# Altium schematic symbol library HW_ADHERENT_SYSCTRL_R1_L2.SCHLIB: 1987 symbols (part 13 of 38)
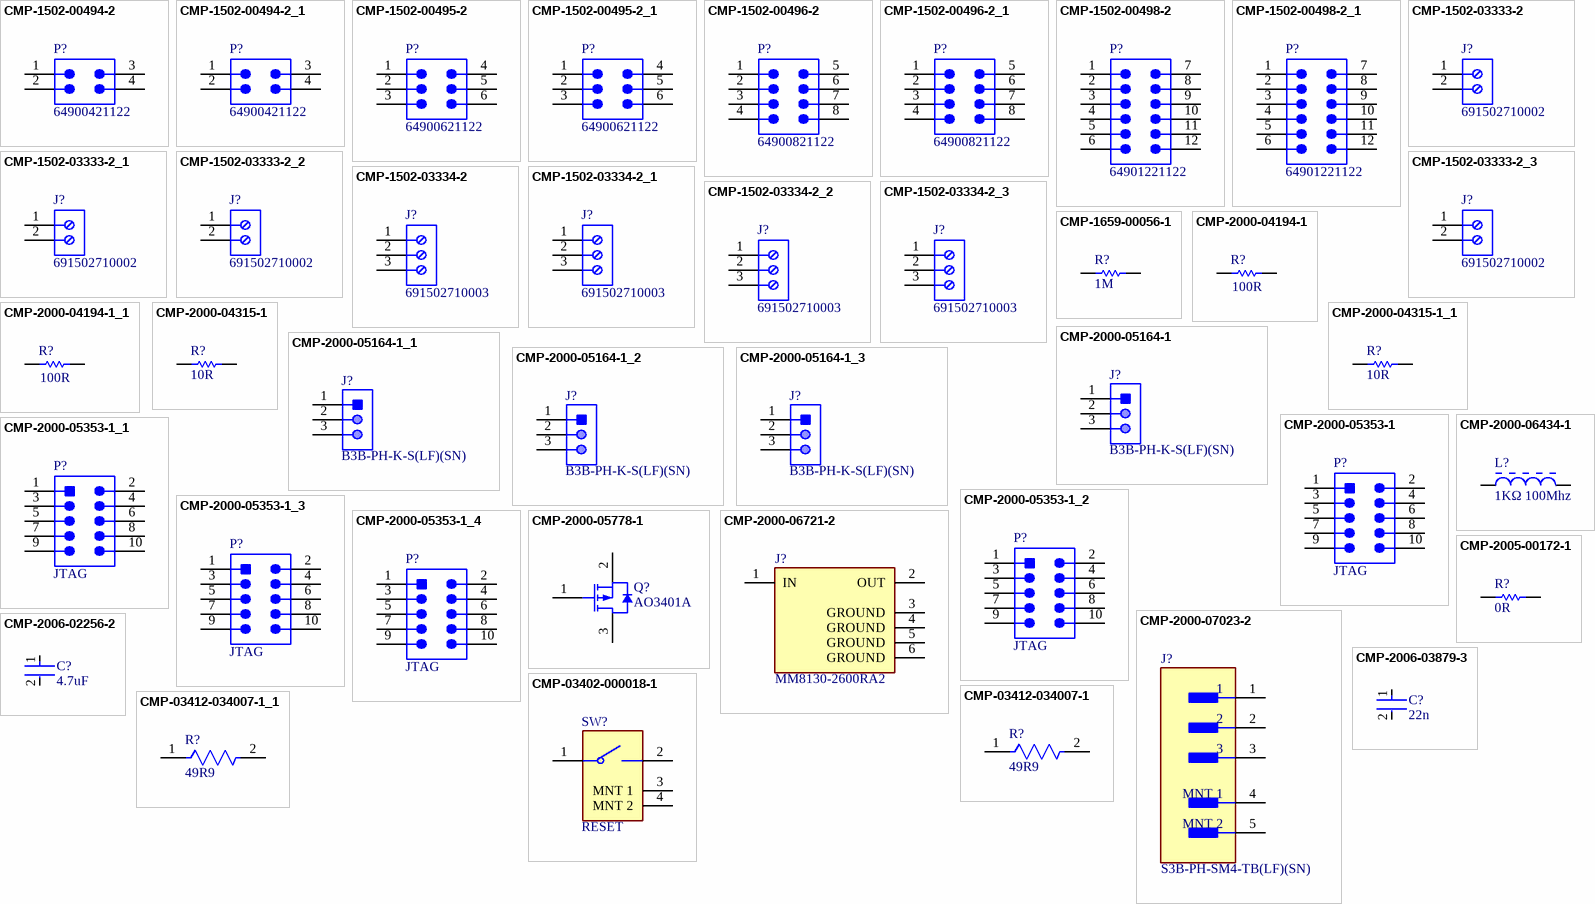
[diagram p74: symbols CMP-1502-00494-2 to CMP-03412-034007-1_1]

## CMP-1502-03333-2_1
designator J?, comment 691502710002
NexarPartId: 106069304; Pitch: 5mm; Packaging: Box; Length: 10mm; Max Operating Temperature: 130°C; Min Operating Temperature: -45°C; Number of Pins: 2
footprint 691502710002 (Terminal Block, Wtb, 2Way, 22-14Awg Rohs Compliant: Yes)
pins: 1, 2

## CMP-1502-03333-2_2
designator J?, comment 691502710002
NexarPartId: 106069304; Pitch: 5mm; Packaging: Box; Length: 10mm; Max Operating Temperature: 130°C; Min Operating Temperature: -45°C; Number of Pins: 2
footprint 691502710002 (Terminal Block, Wtb, 2Way, 22-14Awg Rohs Compliant: Yes)
pins: 1, 2

## CMP-1502-03333-2_3
designator J?, comment 691502710002
NexarPartId: 106069304; Pitch: 5mm; Packaging: Box; Length: 10mm; Max Operating Temperature: 130°C; Min Operating Temperature: -45°C; Number of Pins: 2
footprint 691502710002 (Terminal Block, Wtb, 2Way, 22-14Awg Rohs Compliant: Yes)
pins: 1, 2

## CMP-1502-03334-2
designator J?, comment 691502710003
NexarPartId: 106069305; Pitch: 5mm; Max Operating Temperature: 130°C; Min Operating Temperature: -45°C; Length: 15mm; Packaging: Box; Number of Pins: 3
footprint 691502710003 (Terminal Block, Wtb, 3Way, 22-14Awg Rohs Compliant: Yes)
pins: 1, 2, 3

## CMP-1502-03334-2_1
designator J?, comment 691502710003
NexarPartId: 106069305; Pitch: 5mm; Max Operating Temperature: 130°C; Min Operating Temperature: -45°C; Length: 15mm; Packaging: Box; Number of Pins: 3
footprint 691502710003 (Terminal Block, Wtb, 3Way, 22-14Awg Rohs Compliant: Yes)
pins: 1, 2, 3

## CMP-1502-03334-2_2
designator J?, comment 691502710003
NexarPartId: 106069305; Pitch: 5mm; Max Operating Temperature: 130°C; Min Operating Temperature: -45°C; Length: 15mm; Packaging: Box; Number of Pins: 3
footprint 691502710003 (Terminal Block, Wtb, 3Way, 22-14Awg Rohs Compliant: Yes)
pins: 1, 2, 3

## CMP-1502-03334-2_3
designator J?, comment 691502710003
NexarPartId: 106069305; Pitch: 5mm; Max Operating Temperature: 130°C; Min Operating Temperature: -45°C; Length: 15mm; Packaging: Box; Number of Pins: 3
footprint 691502710003 (Terminal Block, Wtb, 3Way, 22-14Awg Rohs Compliant: Yes)
pins: 1, 2, 3

## CMP-1659-00056-1
designator R?, comment 1M
Chip Resistor, 1 MOhm, +/- 1%, 100 mW, -55 to 155 degC, 0603 (1608 Metric), RoHS, Tape and Reel; Voltage Rating (DC): 25 V; Tolerance: 20%; Case\Package: Radial; Capacitance: 1 mF; Min Operating Temperature: -40 degC; PackageDescription: 2-Pin Surface Mount Device, Body 1.6 x 0.8 mm; ComponentLink1Description: Manufacturer URL; Radiation Hardening: No; DatasheetVersion: Rev. 4, 02/2016; REACH SVHC: No SVHC; Length: 20 mm; Max Operating Temperature: 85 degC; Diameter: 10 mm; Packaging: Bulk; Package Quantity: 200; PackageReference: 0603; Mount: Through Hole; ComponentLink1URL: http://www.yageo.com/; ComponentLink2URL: http://www.yageo.com/documents/recent/PYu-RC_Group_51_RoHS_L_04.pdf; ComponentLink2Description: Datasheet; Width: 0 inch; Lead Pitch: 5 mm; RoHSCompliant: true; Voltage Rating: 25 V; Height: 20 mm
footprint RESC1608X55X25LL10T15 (Chip Resistor, 2-Leads, Body 1.70x0.90mm, IPC High Density)
footprint RESC1608X55X25ML10T15 (Chip Resistor, 2-Leads, Body 1.70x0.90mm, IPC Low Density)
footprint RESC1608X55X25NL10T15 (Chip Resistor, 2-Leads, Body 1.70x0.90mm, IPC Medium Density)
pins: 1, 2

## CMP-2000-04194-1
designator R?, comment 100R
Part Number: RC0603FR-13100RL; Manufacturer: Yageo; Manufacturer Part Number: RC0603FR-13100RL
footprint RESC1608X55X25NL10T15 (Chip Resistor, 2-Leads, Body 1.60x0.80mm, IPC Medium Density)
footprint RESC1608X55X25LL10T15 (Chip Resistor, 2-Leads, Body 1.60x0.80mm, IPC High Density)
footprint RESC1608X55X25ML10T15 (Chip Resistor, 2-Leads, Body 1.60x0.80mm, IPC Low Density)
pins: 1, 2
1 alternate drawing of the same symbol

## CMP-2000-04194-1_1
designator R?, comment 100R
Part Number: RC0603FR-13100RL; Manufacturer: Yageo; Manufacturer Part Number: RC0603FR-13100RL
footprint RESC1608X55X25NL10T15 (Chip Resistor, 2-Leads, Body 1.60x0.80mm, IPC Medium Density)
footprint RESC1608X55X25LL10T15 (Chip Resistor, 2-Leads, Body 1.60x0.80mm, IPC High Density)
footprint RESC1608X55X25ML10T15 (Chip Resistor, 2-Leads, Body 1.60x0.80mm, IPC Low Density)
pins: 1, 2
1 alternate drawing of the same symbol

## CMP-2000-04315-1
designator R?, comment 10R
Part Number: RC0603JR-1310RL; Manufacturer: Yageo; Manufacturer Part Number: RC0603JR-1310RL
footprint RESC1608X55X25LL10T15 (Chip Resistor, 2-Leads, Body 1.60x0.80mm, IPC High Density)
footprint RESC1608X55X25ML10T15 (Chip Resistor, 2-Leads, Body 1.60x0.80mm, IPC Low Density)
footprint RESC1608X55X25NL10T15 (Chip Resistor, 2-Leads, Body 1.60x0.80mm, IPC Medium Density)
pins: 1, 2
1 alternate drawing of the same symbol

## CMP-2000-04315-1_1
designator R?, comment 10R
Part Number: RC0603JR-1310RL; Manufacturer: Yageo; Manufacturer Part Number: RC0603JR-1310RL
footprint RESC1608X55X25LL10T15 (Chip Resistor, 2-Leads, Body 1.60x0.80mm, IPC High Density)
footprint RESC1608X55X25ML10T15 (Chip Resistor, 2-Leads, Body 1.60x0.80mm, IPC Low Density)
footprint RESC1608X55X25NL10T15 (Chip Resistor, 2-Leads, Body 1.60x0.80mm, IPC Medium Density)
pins: 1, 2
1 alternate drawing of the same symbol

## CMP-2000-05164-1
designator J?, comment B3B-PH-K-S(LF)(SN)
Male Header, Pitch 2 mm, 1 x 3 Position, Height 6 mm, Tail Length 3.4 mm, -25 to 85 degC, RoHS, Bulk; Manufacturer: JST; Style/Orientation: StraightHeader/Plug; Pitch: 2mm; No of Positions: 3; Termination: Crimp; Manufacturer URL: http://www.jst.com/home2.html; Datasheet Version: Oct-06; Type: ShroudedHeader; Datasheet URL: https://datasheet.ciiva.com/11746/0900766b80826550-11746939.pdf
footprint JST-B3B-PH-K-S-3_V (Connector, 3-Leads, Body 7.9x4.5mm, Pitch 2mm)
pins: 1, 2, 3

## CMP-2000-05164-1_1
designator J?, comment B3B-PH-K-S(LF)(SN)
Male Header, Pitch 2 mm, 1 x 3 Position, Height 6 mm, Tail Length 3.4 mm, -25 to 85 degC, RoHS, Bulk; Manufacturer: JST; Style/Orientation: StraightHeader/Plug; Pitch: 2mm; No of Positions: 3; Termination: Crimp; Manufacturer URL: http://www.jst.com/home2.html; Datasheet Version: Oct-06; Type: ShroudedHeader; Datasheet URL: https://datasheet.ciiva.com/11746/0900766b80826550-11746939.pdf
footprint JST-B3B-PH-K-S-3_V (Connector, 3-Leads, Body 7.9x4.5mm, Pitch 2mm)
pins: 1, 2, 3

## CMP-2000-05164-1_2
designator J?, comment B3B-PH-K-S(LF)(SN)
Male Header, Pitch 2 mm, 1 x 3 Position, Height 6 mm, Tail Length 3.4 mm, -25 to 85 degC, RoHS, Bulk; Manufacturer: JST; Style/Orientation: StraightHeader/Plug; Pitch: 2mm; No of Positions: 3; Termination: Crimp; Manufacturer URL: http://www.jst.com/home2.html; Datasheet Version: Oct-06; Type: ShroudedHeader; Datasheet URL: https://datasheet.ciiva.com/11746/0900766b80826550-11746939.pdf
footprint JST-B3B-PH-K-S-3_V (Connector, 3-Leads, Body 7.9x4.5mm, Pitch 2mm)
pins: 1, 2, 3

## CMP-2000-05164-1_3
designator J?, comment B3B-PH-K-S(LF)(SN)
Male Header, Pitch 2 mm, 1 x 3 Position, Height 6 mm, Tail Length 3.4 mm, -25 to 85 degC, RoHS, Bulk; Manufacturer: JST; Style/Orientation: StraightHeader/Plug; Pitch: 2mm; No of Positions: 3; Termination: Crimp; Manufacturer URL: http://www.jst.com/home2.html; Datasheet Version: Oct-06; Type: ShroudedHeader; Datasheet URL: https://datasheet.ciiva.com/11746/0900766b80826550-11746939.pdf
footprint JST-B3B-PH-K-S-3_V (Connector, 3-Leads, Body 7.9x4.5mm, Pitch 2mm)
pins: 1, 2, 3

## CMP-2000-05353-1
designator P?, comment JTAG
CONN HEADER SMD 10POS 1.27MM; Manufacturer: Samtec; Manufacturer Part Number: FTSH-105-01-L-DV-K; Number of Contacts: 10; Gender: Male; Max Current Rating: 1.75A; Connector Type: Male Pin; Row Spacing: 0.05inch; ComponentLink1URL: https://datasheet.ciiva.com/26936/getdatasheetpartid-175877-26936879.pdf?src-supplier=Verical; ComponentLink1Description: https://datasheet.ciiva.com/26936/getdatasheetpartid-175877-26936879.pdf?src-supplier=Verical; ComponentLink2URL: https://datasheet.ciiva.com/728/ftsh-1xx-xx-xxx-dv-xxx-mkt-728872.pdf?src-supplier=Digi-Key; ComponentLink2Description: https://datasheet.ciiva.com/728/ftsh-1xx-xx-xxx-dv-xxx-mkt-728872.pdf?src-supplier=Digi-Key; ComponentLink3URL: https://datasheet.ciiva.com/10245/ftsh-mt-10245272.pdf?src-supplier=Avnet; ComponentLink3Description: https://datasheet.ciiva.com/10245/ftsh-mt-10245272.pdf?src-supplier=Avnet; ComponentLink4URL: https://datasheet.ciiva.com/16657/ftsh-mt-16657372.pdf?src-supplier=Avnet+Europe; ComponentLink4Description: https://datasheet.ciiva.com/16657/ftsh-mt-16657372.pdf?src-supplier=Avnet+Europe; ComponentLink5URL: https://datasheet.ciiva.com/22703/ftsh-smt-22703900.pdf?src-supplier=Element14; ComponentLink5Description: https://datasheet.ciiva.com/22703/ftsh-smt-22703900.pdf?src-supplier=Element14; Supplier 1: Digi-Key; Supplier Part Number 1: SAM8799-ND; RoHS: Yes; Category: Headers and Wire Housings; Stock 1: 34196; Pricing 1: 1=3,91000, 10=3,75700, 100=3,13100, 500=2,66136, 1000=2,26998 (USD); Mount: Surface Mount; Contact Plating: Gold; Contact Material: Bronze; Housing Color: Black; Housing Material: Polymer; Color: Black; Min Operating Temperature: -55°C; Max Operating Temperature: 125°C; Number of Rows: 2; Termination: Solder; Packaging: Rail/Tube; Orientation: Straight; Package Quantity: 1; Number of Positions: 10; Series: FTSH; Contact Type: Male Pin; Length: 6.35mm; Pitch: 1.27mm; Depth: 3.43mm; Contact Mating Length: 0.12inch; Radiation Hardening: No; Lead Free: Lead Free; RoHS Compliant: Yes; REACH SVHC: No SVHC
footprint SMTC-FTSH-105-01-L-DV-K_V (CONN, 10-Leads, Body 6.35x3.43mm, Pitch 1.27mm)
pins: 1, 2, 3, 4, 5, 6, 7, 8, 9, 10

## CMP-2000-05353-1_1
designator P?, comment JTAG
CONN HEADER SMD 10POS 1.27MM; Manufacturer: Samtec; Manufacturer Part Number: FTSH-105-01-L-DV-K; Number of Contacts: 10; Gender: Male; Max Current Rating: 1.75A; Connector Type: Male Pin; Row Spacing: 0.05inch; ComponentLink1URL: https://datasheet.ciiva.com/26936/getdatasheetpartid-175877-26936879.pdf?src-supplier=Verical; ComponentLink1Description: https://datasheet.ciiva.com/26936/getdatasheetpartid-175877-26936879.pdf?src-supplier=Verical; ComponentLink2URL: https://datasheet.ciiva.com/728/ftsh-1xx-xx-xxx-dv-xxx-mkt-728872.pdf?src-supplier=Digi-Key; ComponentLink2Description: https://datasheet.ciiva.com/728/ftsh-1xx-xx-xxx-dv-xxx-mkt-728872.pdf?src-supplier=Digi-Key; ComponentLink3URL: https://datasheet.ciiva.com/10245/ftsh-mt-10245272.pdf?src-supplier=Avnet; ComponentLink3Description: https://datasheet.ciiva.com/10245/ftsh-mt-10245272.pdf?src-supplier=Avnet; ComponentLink4URL: https://datasheet.ciiva.com/16657/ftsh-mt-16657372.pdf?src-supplier=Avnet+Europe; ComponentLink4Description: https://datasheet.ciiva.com/16657/ftsh-mt-16657372.pdf?src-supplier=Avnet+Europe; ComponentLink5URL: https://datasheet.ciiva.com/22703/ftsh-smt-22703900.pdf?src-supplier=Element14; ComponentLink5Description: https://datasheet.ciiva.com/22703/ftsh-smt-22703900.pdf?src-supplier=Element14; Supplier 1: Digi-Key; Supplier Part Number 1: SAM8799-ND; RoHS: Yes; Category: Headers and Wire Housings; Stock 1: 34196; Pricing 1: 1=3,91000, 10=3,75700, 100=3,13100, 500=2,66136, 1000=2,26998 (USD); Mount: Surface Mount; Contact Plating: Gold; Contact Material: Bronze; Housing Color: Black; Housing Material: Polymer; Color: Black; Min Operating Temperature: -55°C; Max Operating Temperature: 125°C; Number of Rows: 2; Termination: Solder; Packaging: Rail/Tube; Orientation: Straight; Package Quantity: 1; Number of Positions: 10; Series: FTSH; Contact Type: Male Pin; Length: 6.35mm; Pitch: 1.27mm; Depth: 3.43mm; Contact Mating Length: 0.12inch; Radiation Hardening: No; Lead Free: Lead Free; RoHS Compliant: Yes; REACH SVHC: No SVHC
footprint SMTC-FTSH-105-01-L-DV-K_V (CONN, 10-Leads, Body 6.35x3.43mm, Pitch 1.27mm)
pins: 1, 2, 3, 4, 5, 6, 7, 8, 9, 10

## CMP-2000-05353-1_2
designator P?, comment JTAG
CONN HEADER SMD 10POS 1.27MM; Manufacturer: Samtec; Manufacturer Part Number: FTSH-105-01-L-DV-K; Number of Contacts: 10; Gender: Male; Max Current Rating: 1.75A; Connector Type: Male Pin; Row Spacing: 0.05inch; ComponentLink1URL: https://datasheet.ciiva.com/26936/getdatasheetpartid-175877-26936879.pdf?src-supplier=Verical; ComponentLink1Description: https://datasheet.ciiva.com/26936/getdatasheetpartid-175877-26936879.pdf?src-supplier=Verical; ComponentLink2URL: https://datasheet.ciiva.com/728/ftsh-1xx-xx-xxx-dv-xxx-mkt-728872.pdf?src-supplier=Digi-Key; ComponentLink2Description: https://datasheet.ciiva.com/728/ftsh-1xx-xx-xxx-dv-xxx-mkt-728872.pdf?src-supplier=Digi-Key; ComponentLink3URL: https://datasheet.ciiva.com/10245/ftsh-mt-10245272.pdf?src-supplier=Avnet; ComponentLink3Description: https://datasheet.ciiva.com/10245/ftsh-mt-10245272.pdf?src-supplier=Avnet; ComponentLink4URL: https://datasheet.ciiva.com/16657/ftsh-mt-16657372.pdf?src-supplier=Avnet+Europe; ComponentLink4Description: https://datasheet.ciiva.com/16657/ftsh-mt-16657372.pdf?src-supplier=Avnet+Europe; ComponentLink5URL: https://datasheet.ciiva.com/22703/ftsh-smt-22703900.pdf?src-supplier=Element14; ComponentLink5Description: https://datasheet.ciiva.com/22703/ftsh-smt-22703900.pdf?src-supplier=Element14; Supplier 1: Digi-Key; Supplier Part Number 1: SAM8799-ND; RoHS: Yes; Category: Headers and Wire Housings; Stock 1: 34196; Pricing 1: 1=3,91000, 10=3,75700, 100=3,13100, 500=2,66136, 1000=2,26998 (USD); Mount: Surface Mount; Contact Plating: Gold; Contact Material: Bronze; Housing Color: Black; Housing Material: Polymer; Color: Black; Min Operating Temperature: -55°C; Max Operating Temperature: 125°C; Number of Rows: 2; Termination: Solder; Packaging: Rail/Tube; Orientation: Straight; Package Quantity: 1; Number of Positions: 10; Series: FTSH; Contact Type: Male Pin; Length: 6.35mm; Pitch: 1.27mm; Depth: 3.43mm; Contact Mating Length: 0.12inch; Radiation Hardening: No; Lead Free: Lead Free; RoHS Compliant: Yes; REACH SVHC: No SVHC
footprint SMTC-FTSH-105-01-L-DV-K_V (CONN, 10-Leads, Body 6.35x3.43mm, Pitch 1.27mm)
pins: 1, 2, 3, 4, 5, 6, 7, 8, 9, 10

## CMP-2000-05353-1_3
designator P?, comment JTAG
CONN HEADER SMD 10POS 1.27MM; Manufacturer: Samtec; Manufacturer Part Number: FTSH-105-01-L-DV-K; Number of Contacts: 10; Gender: Male; Max Current Rating: 1.75A; Connector Type: Male Pin; Row Spacing: 0.05inch; ComponentLink1URL: https://datasheet.ciiva.com/26936/getdatasheetpartid-175877-26936879.pdf?src-supplier=Verical; ComponentLink1Description: https://datasheet.ciiva.com/26936/getdatasheetpartid-175877-26936879.pdf?src-supplier=Verical; ComponentLink2URL: https://datasheet.ciiva.com/728/ftsh-1xx-xx-xxx-dv-xxx-mkt-728872.pdf?src-supplier=Digi-Key; ComponentLink2Description: https://datasheet.ciiva.com/728/ftsh-1xx-xx-xxx-dv-xxx-mkt-728872.pdf?src-supplier=Digi-Key; ComponentLink3URL: https://datasheet.ciiva.com/10245/ftsh-mt-10245272.pdf?src-supplier=Avnet; ComponentLink3Description: https://datasheet.ciiva.com/10245/ftsh-mt-10245272.pdf?src-supplier=Avnet; ComponentLink4URL: https://datasheet.ciiva.com/16657/ftsh-mt-16657372.pdf?src-supplier=Avnet+Europe; ComponentLink4Description: https://datasheet.ciiva.com/16657/ftsh-mt-16657372.pdf?src-supplier=Avnet+Europe; ComponentLink5URL: https://datasheet.ciiva.com/22703/ftsh-smt-22703900.pdf?src-supplier=Element14; ComponentLink5Description: https://datasheet.ciiva.com/22703/ftsh-smt-22703900.pdf?src-supplier=Element14; Supplier 1: Digi-Key; Supplier Part Number 1: SAM8799-ND; RoHS: Yes; Category: Headers and Wire Housings; Stock 1: 34196; Pricing 1: 1=3,91000, 10=3,75700, 100=3,13100, 500=2,66136, 1000=2,26998 (USD); Mount: Surface Mount; Contact Plating: Gold; Contact Material: Bronze; Housing Color: Black; Housing Material: Polymer; Color: Black; Min Operating Temperature: -55°C; Max Operating Temperature: 125°C; Number of Rows: 2; Termination: Solder; Packaging: Rail/Tube; Orientation: Straight; Package Quantity: 1; Number of Positions: 10; Series: FTSH; Contact Type: Male Pin; Length: 6.35mm; Pitch: 1.27mm; Depth: 3.43mm; Contact Mating Length: 0.12inch; Radiation Hardening: No; Lead Free: Lead Free; RoHS Compliant: Yes; REACH SVHC: No SVHC
footprint SMTC-FTSH-105-01-L-DV-K_V (CONN, 10-Leads, Body 6.35x3.43mm, Pitch 1.27mm)
pins: 1, 2, 3, 4, 5, 6, 7, 8, 9, 10

## CMP-2000-05353-1_4
designator P?, comment JTAG
CONN HEADER SMD 10POS 1.27MM; Manufacturer: Samtec; Manufacturer Part Number: FTSH-105-01-L-DV-K; Number of Contacts: 10; Gender: Male; Max Current Rating: 1.75A; Connector Type: Male Pin; Row Spacing: 0.05inch; ComponentLink1URL: https://datasheet.ciiva.com/26936/getdatasheetpartid-175877-26936879.pdf?src-supplier=Verical; ComponentLink1Description: https://datasheet.ciiva.com/26936/getdatasheetpartid-175877-26936879.pdf?src-supplier=Verical; ComponentLink2URL: https://datasheet.ciiva.com/728/ftsh-1xx-xx-xxx-dv-xxx-mkt-728872.pdf?src-supplier=Digi-Key; ComponentLink2Description: https://datasheet.ciiva.com/728/ftsh-1xx-xx-xxx-dv-xxx-mkt-728872.pdf?src-supplier=Digi-Key; ComponentLink3URL: https://datasheet.ciiva.com/10245/ftsh-mt-10245272.pdf?src-supplier=Avnet; ComponentLink3Description: https://datasheet.ciiva.com/10245/ftsh-mt-10245272.pdf?src-supplier=Avnet; ComponentLink4URL: https://datasheet.ciiva.com/16657/ftsh-mt-16657372.pdf?src-supplier=Avnet+Europe; ComponentLink4Description: https://datasheet.ciiva.com/16657/ftsh-mt-16657372.pdf?src-supplier=Avnet+Europe; ComponentLink5URL: https://datasheet.ciiva.com/22703/ftsh-smt-22703900.pdf?src-supplier=Element14; ComponentLink5Description: https://datasheet.ciiva.com/22703/ftsh-smt-22703900.pdf?src-supplier=Element14; Supplier 1: Digi-Key; Supplier Part Number 1: SAM8799-ND; RoHS: Yes; Category: Headers and Wire Housings; Stock 1: 34196; Pricing 1: 1=3,91000, 10=3,75700, 100=3,13100, 500=2,66136, 1000=2,26998 (USD); Mount: Surface Mount; Contact Plating: Gold; Contact Material: Bronze; Housing Color: Black; Housing Material: Polymer; Color: Black; Min Operating Temperature: -55°C; Max Operating Temperature: 125°C; Number of Rows: 2; Termination: Solder; Packaging: Rail/Tube; Orientation: Straight; Package Quantity: 1; Number of Positions: 10; Series: FTSH; Contact Type: Male Pin; Length: 6.35mm; Pitch: 1.27mm; Depth: 3.43mm; Contact Mating Length: 0.12inch; Radiation Hardening: No; Lead Free: Lead Free; RoHS Compliant: Yes; REACH SVHC: No SVHC
footprint SMTC-FTSH-105-01-L-DV-K_V (CONN, 10-Leads, Body 6.35x3.43mm, Pitch 1.27mm)
pins: 1, 2, 3, 4, 5, 6, 7, 8, 9, 10

## CMP-2000-05778-1
designator Q?, comment AO3401A
P-Channel MOSFET, 30 V, 4 A, -55 to 150 degC, 3-Pin SOT-23-3L, RoHS, Tape and Reel; Manufacturer: Alpha and Omega; Output Power (Max): NotRequiredW; Power Dissipation: 1.4W; Rad Hardened: No; Drain Efficiency: NotRequired%; Drain-Source On-Volt: 30V; Noise Figure: NotRequireddB; Frequency (Max): NotRequiredMHz; Number of  Elements: 1; Gate-Source Voltage (Max): ?12V; Drain Current (Max): 4A; Channel Mode: Enhancement; Drain-Source On-Res: 0.044ohm; Type: PowerMOSFET; Polarity: P; Package URL: http://www.aosmd.com/res/packaging_information/SOT-23-3L.pdf; Datasheet URL: http://www.aosmd.com/res/data_sheets/AO3401A.pdf; Package Type: SOT-23; Package Description: 3-Pin Small Outline Transistor, Body 2.95 x 1.6 mm, Pitch 0.95 mm; Mounting: SurfaceMount; Manufacturer URL: http://www.aosmd.com/; Continuous Drain Current: 4A; Package Reference: SOT-23-3L; Mounting Technology: SurfaceMount; Operating Temperature Classification: Military; Power Gain: NotRequireddB; Datasheet Version: Rev. 3, 03/2011; Operating Temp Range: -55Cto150C; Pin Count: 3
footprint AO-SOT-23-3L_V (SOT23, 3-Leads, Body 3.1x1.8mm, Pitch 0.95mm)
pins: 1 GATE, 2 SOURCE, 3 DRAIN

## CMP-2000-06434-1
designator L?, comment 1KΩ 100Mhz
1KΩ 100Mhz 0603 0.2A; Manufacturer: Laird; Manufacturer Part Number: HZ0603B102R-10; Current Rating (Max): 200mA; Other Names: 240-2378-1; Online Catalog: HZSeries; Catalog Drawings: (HI,HZ,LI,MI)0603Series_0.95mmMax.Height; Impedance @ Frequency: 1kOhm@100MHz; Kits: 240-2227-ND-KITEMIFERRITEBEADCHIPSMD; Filter Type: SignalLine; DC Resistance (DCR) (Max): 600mOhm; Number of Lines: 1; Standard Package: 1; Operating Temperature: -40°C~125°C; Package Reference: 0603; Category: Filters; Series: HZ; Packaging: CutTape(CT); Manufacturer URL: https://www.lairdtech.com/; Family: FerriteBeadsandChips; Mounting Technology: SurfaceMount; Height (Max): 0.037"(0.95mm); Datasheet Version: Rev. C, 08/2013; Ratings: -; Package Description: 2-Pin Surface Mount Device, Body 1.6 x 0.8 mm; Size / Dimension: 0.063"Lx0.031"W(1.60mmx0.80mm); Mounting Type: SurfaceMount; Package / Case: 0603(1608Metric); Datasheet URL: http://cdn.lairdtech.com/home/brandworld/files/HZ0603B102R-10.pdf
footprint LIRD-HZ0603C601R-10-2_V (SMD, 2-Leads, Body 1.6x0.8mm)
pins: 1, 2

## CMP-2000-06721-2
designator J?, comment MM8130-2600RA2
CONN SWF RCPT STR 50 OHM SMD; Manufacturer: Murata; Frequency: 6GHz; Number Of Contacts: 2; Conn Orientation: Vertical; Impedance: 50Ω; Automotive: No; Device Class L2: RF / Coaxial Connectors; Height: 1.5mm; RoHS: TRUE; Temperature Range High: +85°C; ComponentLink2URL: https://media.digikey.com/pdf/Data%20Sheets/Murata%20PDFs/Microwave_Coaxial_Conn_Cat030E.pdf; ComponentLink2Description: Datasheet; Temperature Range Low: -40°C; Lead Free: Yes; Device Class L1: Connectors; Octopart: https://octopart.com/mm8130-2600ra2-murata-7861560; Category: Conn; Device Class L3: unset; Mouser Description: RF Connectors / Coaxial Connectors CONNECTOR; Package: 0; Temperature: -40°C to +85°C; Contact Material: Gold; Manufacturer Part Number: MM8130-2600RA2; Digikey Description: CONN SWF RCPT STR 50 OHM SMD
footprint FP-MM8130-2600RA2-MFG
pins: 1 IN, 2 OUT, 3 GROUND (power), 4 GROUND (power), 5 GROUND (power), 6 GROUND (power)

## CMP-2000-07023-2
designator J?, comment S3B-PH-SM4-TB(LF)(SN)
CONN HEADER SMD R/A 3POS 2MM; Voltage Rating: 100V; Gender: Male; Max Current Rating: 2A; Number of Contacts: 3; Insulation Resistance: 1GR; Contact Resistance: 10mR; Termination: Solder; Orientation: Right Angle; Insulation Color: Natural; Flammability Rating: UL94 V-0; Width: 5mm; Lead Free: Lead Free; Mount: Surface Mount; Max Operating Temperature: 85°C; Connector Type: Header; Fastening Type: Detent; Max Voltage Rating (DC): 100V; Housing Material: Polyamide; Number of Rows: 1; Housing Color: Beige; Contact Plating: Tin; Contact Shape: Square; Working Voltage: 100V; Contact Material: Copper Alloy; Contact Mating Length: 0.13inch; Contact Type: Male Pin; Max Voltage Rating (AC): 100V; Packaging: Tape and Reel; Min Operating Temperature: -25°C; Number of Positions: 3; REACH SVHC: No SVHC; Contact Finish - Mating: TIN; Color: Natural; Length: 9.9mm; Insulation Material: Nylon; Depth: 7.6mm; Current Rating: 2A; Material: Polyamide; Voltage Rating (AC): 100V; Pitch: 2mm; Series: PH; Height: 9.4mm; Number of Poles: 3; Lead Pitch: 2mm
footprint FP-S3B-PH-SM4-TB_LF_SN-MFG
pins: 1, 2, 3, 4 MNT 1, 5 MNT 2

## CMP-2005-00172-1
designator R?, comment 0R
Part Number: CRCW12100000Z0EAHP; Manufacturer: Vishay Dale
footprint RESC3225X60X45ML20T20 (Chip Resistor, 2-Leads, Body 3.20x2.50mm, IPC Low Density)
footprint RESC3225X60X45NL20T20 (Chip Resistor, 2-Leads, Body 3.20x2.50mm, IPC Medium Density)
footprint RESC3225X60X45LL20T20 (Chip Resistor, 2-Leads, Body 3.20x2.50mm, IPC High Density)
pins: 1, 2
1 alternate drawing of the same symbol

## CMP-2006-02256-2
designator C?, comment 4.7uF
CAP CER 4.7UF 6.3V X5R 0603; Manufacturer: Kemet; Manufacturer Part Number: C0603C475K9PACTU; Temperature Coefficient: 15%; Tolerance: 10%; Material: Ceramic; Device Class L3: Ceramic Capacitors; RoHS: TRUE; Value: 4.7uF; Lead Free: Yes; ComponentLink2Description: Datasheet; Mouser Description: Multilayer Ceramic Capacitors MLCC - SMD/SMT 6.3volts 4.7uF X5R 10%; Package: C0603-CG; Digikey Description: CAP CER 4.7UF 6.3V X5R 0603; ComponentLink2URL: https://content.kemet.com/datasheets/KEM_C1006_X5R_SMD.pdf; Category: Cap; Temperature Range Low: -55°C; Capacitance: 4.7uF; Temperature: -55°C to +85°C; Octopart: https://octopart.com/c0603c475k9pactu-kemet-104242; Ipc Land Pattern Name: CAPC16080X80; Voltage Rating: 6.3V; Temperature Range High: +85°C; Height: 0.9mm; Temperature Characteristic: X5R; Device Class L1: Passive Components; Automotive: No; Device Class L2: Capacitors
footprint FP-C0603-CG-MFG
footprint FP-C0603-CG-IPC_C
footprint FP-C0603-CG-IPC_B
footprint FP-C0603-CG-IPC_A
pins: 1, 2

## CMP-2006-03879-3
designator C?, comment 22n
Ceramic Capacitor 0.022Uf 50V, X7R, 10%, 0603, Full Reel; Manufacturer Part Number: C0603C223K5RACTU; Manufacturer: KEMET; Automotive Grade: Grade 1; Capacitance: 22,000 pF; Value: 22,000 pF; Tolerance: 0.1; Temperature Coefficient: 30ppm/°C; Material: Ceramic; Mouser Description: Capacitor; Ceramic; Cap; .022uF; Tol+10%; SMT; Vol-Rtg 50V; X7R; TR; Voltage Rating: 50 V; Category: Cap; Device Class L2: Capacitors; RoHS: TRUE; Package: C0603C-CF; Device Class L1: Passive Components; Temperature Range Low: -55°C; Octopart: https://octopart.com/c0603c223k5ractu-kemet-97352; Temperature: -55°C to +125°C; Temperature Range High: +125°C; Automotive: Yes; Lead Free: Yes; ComponentLink2URL: https://api.kemet.com/component-edge/download/datasheet/C0603C100J5GACAUTO.pdf; Temperature Characteristic: X7R; Height: 0.87mm; Device Class L3: Ceramic Capacitors; Digikey Description: Ceramic Capacitor 0.022Uf 50V, X7R, 10%, 0603, Full Reel; ComponentLink2Description: Datasheet
footprint FP-C0603C-CF-MFG
footprint FP-C0603C-CF-IPC_C
footprint FP-C0603C-CF-IPC_B
footprint FP-C0603C-CF-IPC_A
pins: 1, 2

## CMP-03402-000018-1
designator SW?, comment RESET
SWITCH TACTILE SPST-NO 0.05A 24V; Manufacturer: TE Connectivity; Manufacturer Part Number: 1-1825027-7; Mechanical Life: 100000Cycles; Actuator Material: PBT; Actuator Color: White; Throw Configuration: SPST; Operating Force: 1.57N; Illumination Type: Non-Illuminated; Contact Resistance: 100mR; Contact Current Rating: 50mA; Switch Travel: 0.25mm; Switch Function: Off-Mom; Actuator Type: Standard; Actuator Length: 4.24mm; Supplier 1: Digi-Key; Supplier Part Number 1: 450-1660-ND; RoHS: Yes; Category: Pushbutton Switches; Stock 1: 84971; Pricing 1: 1=0,22000, 10=0,21600, 25=0,20480, 100=0,18530, 250=0,16896, 500=0,15706, 1000=0,13399, 2500=0,13026, 5000=0,12282 (USD); Mount: Through Hole; Contact Material: Copper Alloy; Contact Plating: Silver; Min Operating Temperature: -35°C; Max Operating Temperature: 85°C; Voltage Rating (DC): 24V; Package Quantity: 1000; Termination: PC Pins; Packaging: Loose Piece; Max Voltage Rating (DC): 24V; Max Current Rating: 50mA; Electrical Life: 100000Cycles; Orientation: Right Angle; Type: Switch; Series: FSMRAJ, Alcoswitch; Length: 7.11mm; Depth: 10.86mm; Radiation Hardening: No; RoHS Compliant: Yes; ELV: Compliant; Lead Free: Lead Free; ComponentLink1URL: https://datasheet.ciiva.com/30230/eng-cd-1825027-f-30230181.pdf?src-supplier=Onlinecomponents.com; ComponentLink1Description: https://datasheet.ciiva.com/30230/eng-cd-1825027-f-30230181.pdf?src-supplier=Onlinecomponents.com; ComponentLink2URL: https://datasheet.ciiva.com/15184/getdatasheetpartid-160741-15184438.pdf?src-supplier=Verical; ComponentLink2Description: https://datasheet.ciiva.com/15184/getdatasheetpartid-160741-15184438.pdf?src-supplier=Verical; ComponentLink3URL: https://datasheet.ciiva.com/16535/eng-cd-1825027-g4-16535162.pdf?src-supplier=Avnet+Europe; ComponentLink3Description: https://datasheet.ciiva.com/16535/eng-cd-1825027-g4-16535162.pdf?src-supplier=Avnet+Europe; ComponentLink4URL: https://datasheet.ciiva.com/8164/eng-cd-1825027-g4-8164763.pdf?src-supplier=Avnet; ComponentLink4Description: https://datasheet.ciiva.com/8164/eng-cd-1825027-g4-8164763.pdf?src-supplier=Avnet; ComponentLink5URL: https://datasheet.ciiva.com/45260/fsmseries-45260031.pdf?src-supplier=Digi-Key; ComponentLink5Description: https://datasheet.ciiva.com/45260/fsmseries-45260031.pdf?src-supplier=Digi-Key
footprint FP-1-1825027-7-MFG
pins: 1, 2, 3 MNT 1, 4 MNT 2

## CMP-03412-034007-1
designator R?, comment 49R9
RES SMD 49.9OHM 0.05% 1/10W 0603; Manufacturer: Yageo; Manufacturer Part Number: RT0603WRE0749R9L; Voltage Rating: 75V; Tolerance: 0.0005; Power Rating: 0.1W; Resistance: 49.9Ω; Temperature Coefficient: 50 ppm/°C; Value: 49.9Ω; RoHS: TRUE; Temperature Range Low: -55°C; Device Class L2: Resistors; Device Class L1: Passive Components; Footprint Url: http://www.yageo.com/exep/pages/download/literatures/PYu-R_Mount_10.pdf; Series: RT; Category: Res; Lead Free: Yes; Temperature: -55°C to +155°C; Octopart: https://octopart.com/rt0603wre0749r9l-yageo-71397127; Device Class L3: Chip SMD Resistors; Height: 0.55mm; Digikey Description: RES SMD 49.9OHM 0.05% 1/10W 0603; ComponentLink2Description: Datasheet; ComponentLink2URL: http://www.yageo.com/documents/recent/PYu-RT_1-to-0.01_RoHS_L_9.pdf; Automotive: No; Package: RT0603; Composition: Thin Film; Ipc Land Pattern Name: RESC16080X45; Temperature Range High: +155°C
footprint FP-RT0603-MFG
footprint FP-RT0603-IPC_C
footprint FP-RT0603-IPC_B
footprint FP-RT0603-IPC_A
pins: 1, 2

## CMP-03412-034007-1_1
designator R?, comment 49R9
RES SMD 49.9OHM 0.05% 1/10W 0603; Manufacturer: Yageo; Manufacturer Part Number: RT0603WRE0749R9L; Voltage Rating: 75V; Tolerance: 0.0005; Power Rating: 0.1W; Resistance: 49.9Ω; Temperature Coefficient: 50 ppm/°C; Value: 49.9Ω; RoHS: TRUE; Temperature Range Low: -55°C; Device Class L2: Resistors; Device Class L1: Passive Components; Footprint Url: http://www.yageo.com/exep/pages/download/literatures/PYu-R_Mount_10.pdf; Series: RT; Category: Res; Lead Free: Yes; Temperature: -55°C to +155°C; Octopart: https://octopart.com/rt0603wre0749r9l-yageo-71397127; Device Class L3: Chip SMD Resistors; Height: 0.55mm; Digikey Description: RES SMD 49.9OHM 0.05% 1/10W 0603; ComponentLink2Description: Datasheet; ComponentLink2URL: http://www.yageo.com/documents/recent/PYu-RT_1-to-0.01_RoHS_L_9.pdf; Automotive: No; Package: RT0603; Composition: Thin Film; Ipc Land Pattern Name: RESC16080X45; Temperature Range High: +155°C
footprint FP-RT0603-MFG
footprint FP-RT0603-IPC_C
footprint FP-RT0603-IPC_B
footprint FP-RT0603-IPC_A
pins: 1, 2

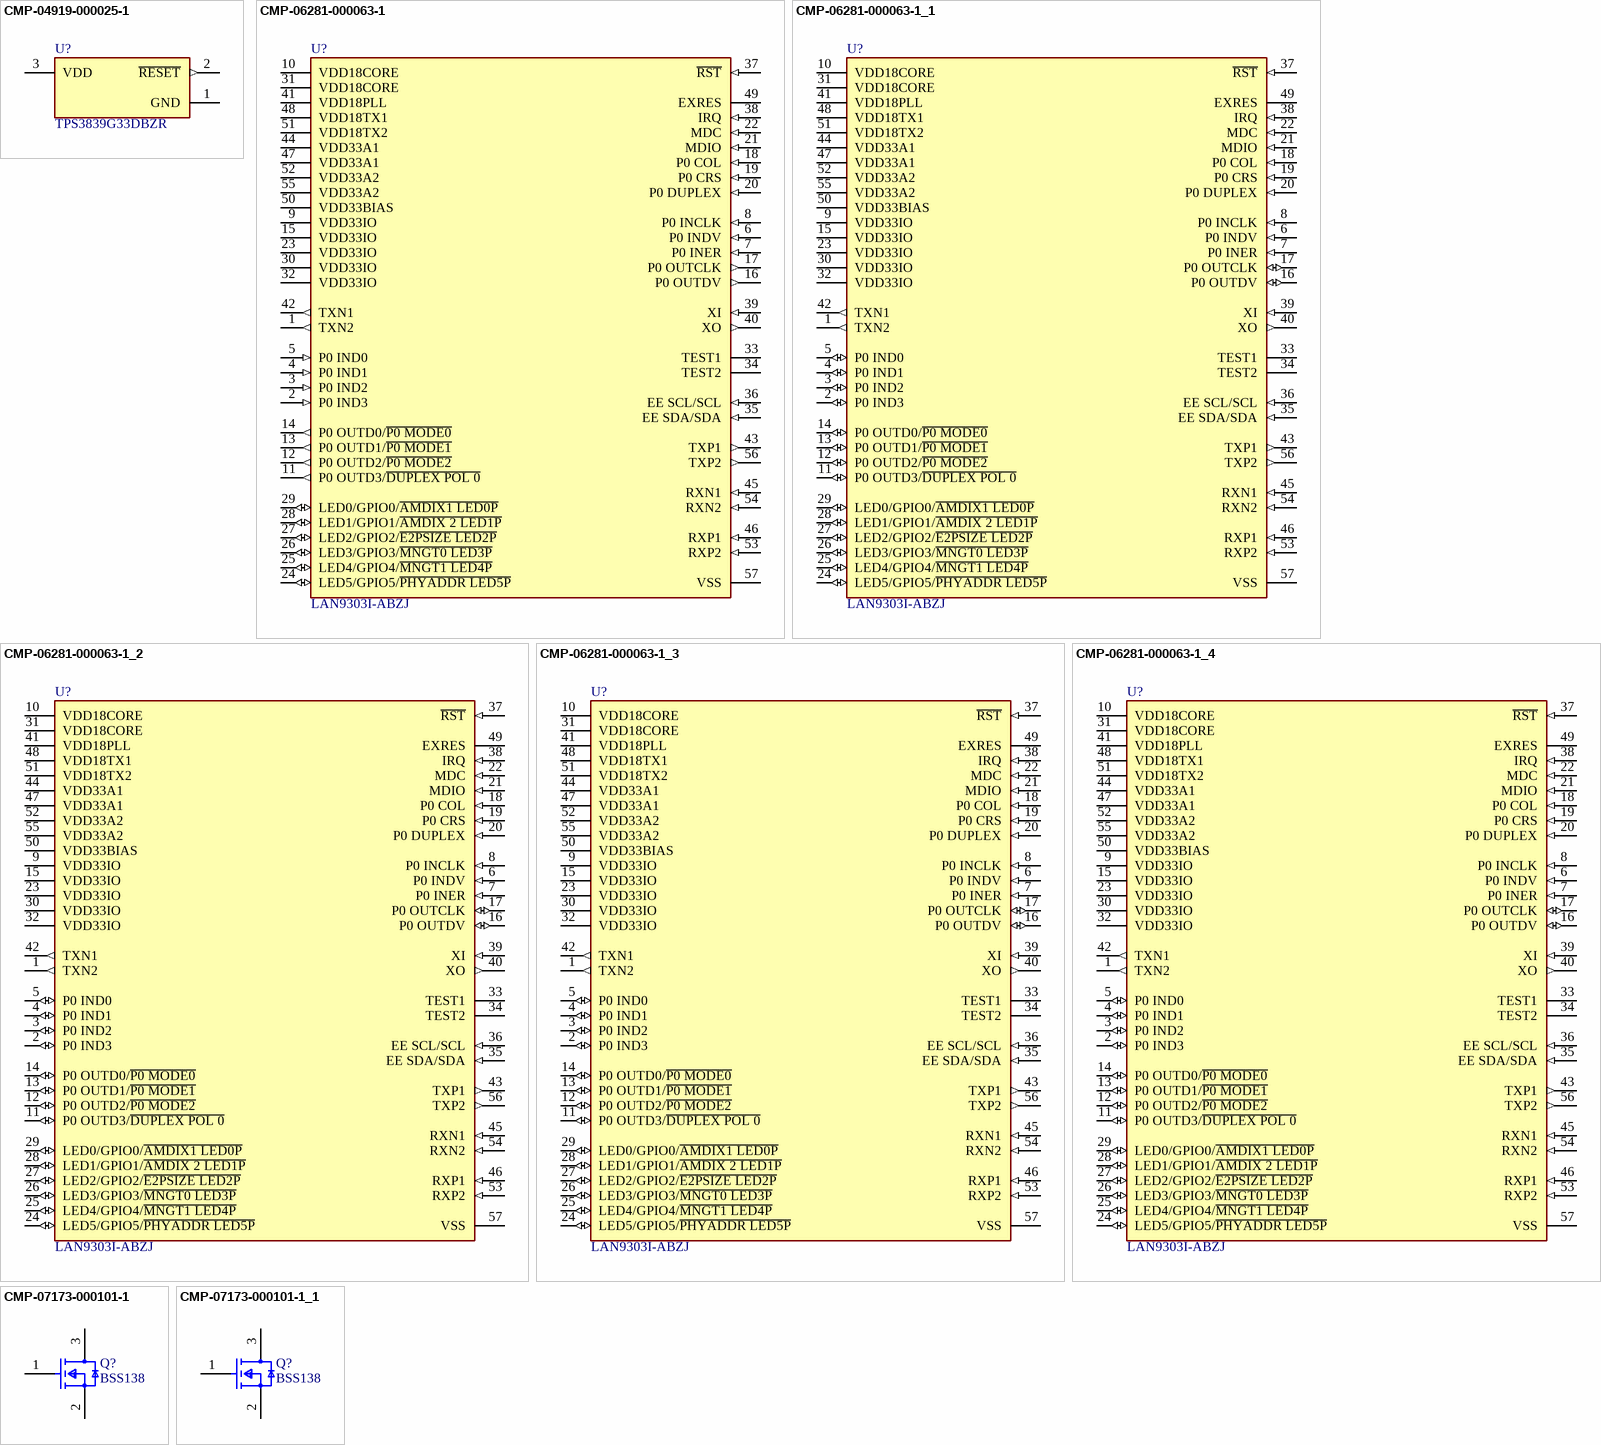
[diagram p18: symbols CMP-04919-000025-1 to CMP-07173-000101-1_1]

## CMP-04919-000025-1
designator U?, comment TPS3839G33DBZR
IC SUPERVISOR 1 CHANNEL SOT23-3; Output: TOTEM-POLE; Reset Timeout: 120ms; Quiescent Current: 150nA; Watchdog Timer: No; Reset: Active Low; Min Supply Voltage: 600mV; Threshold Voltage: 3.08V; Max Reset Threshold Voltage: 3.126V; Max Supply Voltage: 6.5V; Max Supply Current: 500nA; Min Reset Threshold Voltage: 3.003V; Number of Voltages Monitored: 1; RoHS Compliant: Yes; Number of Pins: 3; Max Operating Temperature: 85°C; Case/Package: SOT-23; Radiation Hardening: No; Packaging: Tape and Reel; Min Operating Temperature: -40°C; Type: Simple Reset/Power-On Reset; Package Quantity: 3000; Series: TPS3839G33; Mount: Surface Mount; Lead Free: Lead Free
footprint FP-DBZ0003A-MFG
footprint FP-DBZ0003A-IPC_A
footprint FP-DBZ0003A-IPC_B
footprint FP-DBZ0003A-IPC_C
pins: 1 GND (power), 2 ~{RESET} (out), 3 VDD (power)

## CMP-06281-000063-1
designator U?, comment LAN9303I-ABZJ
IC ETHER SW 3PORT 16BIT 56QFN; Min Supply Voltage: 3V; Data Rate: 100Mbps; Max Supply Current: 190mA; Number of Ports: 3; Max Supply Voltage: 3.6V; Number of Transceivers: 1; Operating Supply Voltage: 3.3V; Interface: I2C; Min Operating Temperature: -40°C; Series: -; Mount: Surface Mount; Radiation Hardening: No; Package Quantity: 260; Lead Free: Lead Free; Number of Pins: 56; Packaging: Tray; Case/Package: QFN; Height: 0.9mm; RoHS Compliant: Yes; Operating Supply Current: 190mA; Width: 7.95mm; Max Operating Temperature: 85°C; Length: 7.95mm; Manufacturer Part Number: LAN9303I-ABZJ
footprint QFN50P800X800X100-57N
pins: 1 TXN2 (out), 2 P0 IND3 (in), 3 P0 IND2 (in), 4 P0 IND1 (in), 5 P0 IND0 (in), 6 P0 INDV (in), 7 P0 INER (in), 8 P0 INCLK (in), 9 VDD33IO (power), 10 VDD18CORE (power), 11 P0 OUTD3/~{DUPLEX POL 0} (out), 12 P0 OUTD2/~{P0 MODE2} (out), 13 P0 OUTD1/~{P0 MODE1} (out), 14 P0 OUTD0/~{P0 MODE0} (out), 15 VDD33IO (power), 16 P0 OUTDV (out), 17 P0 OUTCLK (out), 18 P0 COL (in), 19 P0 CRS (in), 20 P0 DUPLEX (in), 21 MDIO (in), 22 MDC (in), 23 VDD33IO (power), 24 LED5/GPIO5/~{PHYADDR LED5P} (io), 25 LED4/GPIO4/~{MNGT1 LED4P} (io), 26 LED3/GPIO3/~{MNGT0 LED3P} (io), 27 LED2/GPIO2/~{E2PSIZE LED2P} (io), 28 LED1/GPIO1/~{AMDIX 2 LED1P} (io), 29 LED0/GPIO0/~{AMDIX1 LED0P} (io), 30 VDD33IO (power), 31 VDD18CORE (power), 32 VDD33IO (power), 33 TEST1, 34 TEST2, 35 EE SDA/SDA (in), 36 EE SCL/SCL (in), 37 ~{RST} (in), 38 IRQ (in), 39 XI (in), 40 XO (out), 41 VDD18PLL (power), 42 TXN1 (out), 43 TXP1 (out), 44 VDD33A1 (power), 45 RXN1 (in), 46 RXP1 (in), 47 VDD33A1 (power), 48 VDD18TX1 (power), 49 EXRES (power), 50 VDD33BIAS (power), 51 VDD18TX2 (power), 52 VDD33A2 (power), 53 RXP2 (in), 54 RXN2 (in), 55 VDD33A2 (power), 56 TXP2 (out), 57 VSS (power)

## CMP-06281-000063-1_1
designator U?, comment LAN9303I-ABZJ
IC ETHER SW 3PORT 16BIT 56QFN; Min Supply Voltage: 3V; Data Rate: 100Mbps; Max Supply Current: 190mA; Number of Ports: 3; Max Supply Voltage: 3.6V; Number of Transceivers: 1; Operating Supply Voltage: 3.3V; Interface: I2C; Min Operating Temperature: -40°C; Series: -; Mount: Surface Mount; Radiation Hardening: No; Package Quantity: 260; Lead Free: Lead Free; Number of Pins: 56; Packaging: Tray; Case/Package: QFN; Height: 0.9mm; RoHS Compliant: Yes; Operating Supply Current: 190mA; Width: 7.95mm; Max Operating Temperature: 85°C; Length: 7.95mm
footprint QFN50P800X800X100-57N
pins: 1 TXN2 (out), 2 P0 IND3 (io), 3 P0 IND2 (io), 4 P0 IND1 (io), 5 P0 IND0 (io), 6 P0 INDV (in), 7 P0 INER (in), 8 P0 INCLK (in), 9 VDD33IO (power), 10 VDD18CORE (power), 11 P0 OUTD3/~{DUPLEX POL 0} (io), 12 P0 OUTD2/~{P0 MODE2} (io), 13 P0 OUTD1/~{P0 MODE1} (io), 14 P0 OUTD0/~{P0 MODE0} (io), 15 VDD33IO (power), 16 P0 OUTDV (io), 17 P0 OUTCLK (io), 18 P0 COL (in), 19 P0 CRS (in), 20 P0 DUPLEX (in), 21 MDIO (in), 22 MDC (in), 23 VDD33IO (power), 24 LED5/GPIO5/~{PHYADDR LED5P} (io), 25 LED4/GPIO4/~{MNGT1 LED4P} (io), 26 LED3/GPIO3/~{MNGT0 LED3P} (io), 27 LED2/GPIO2/~{E2PSIZE LED2P} (io), 28 LED1/GPIO1/~{AMDIX 2 LED1P} (io), 29 LED0/GPIO0/~{AMDIX1 LED0P} (io), 30 VDD33IO (power), 31 VDD18CORE (power), 32 VDD33IO (power), 33 TEST1, 34 TEST2, 35 EE SDA/SDA (in), 36 EE SCL/SCL (in), 37 ~{RST} (in), 38 IRQ (in), 39 XI (in), 40 XO (out), 41 VDD18PLL (power), 42 TXN1 (out), 43 TXP1 (out), 44 VDD33A1 (power), 45 RXN1 (in), 46 RXP1 (in), 47 VDD33A1 (power), 48 VDD18TX1 (power), 49 EXRES (power), 50 VDD33BIAS (power), 51 VDD18TX2 (power), 52 VDD33A2 (power), 53 RXP2 (in), 54 RXN2 (in), 55 VDD33A2 (power), 56 TXP2 (out), 57 VSS (power)

## CMP-06281-000063-1_2
designator U?, comment LAN9303I-ABZJ
IC ETHER SW 3PORT 16BIT 56QFN; Min Supply Voltage: 3V; Data Rate: 100Mbps; Max Supply Current: 190mA; Number of Ports: 3; Max Supply Voltage: 3.6V; Number of Transceivers: 1; Operating Supply Voltage: 3.3V; Interface: I2C; Min Operating Temperature: -40°C; Series: -; Mount: Surface Mount; Radiation Hardening: No; Package Quantity: 260; Lead Free: Lead Free; Number of Pins: 56; Packaging: Tray; Case/Package: QFN; Height: 0.9mm; RoHS Compliant: Yes; Operating Supply Current: 190mA; Width: 7.95mm; Max Operating Temperature: 85°C; Length: 7.95mm
footprint QFN50P800X800X100-57N
pins: 1 TXN2 (out), 2 P0 IND3 (io), 3 P0 IND2 (io), 4 P0 IND1 (io), 5 P0 IND0 (io), 6 P0 INDV (in), 7 P0 INER (in), 8 P0 INCLK (in), 9 VDD33IO (power), 10 VDD18CORE (power), 11 P0 OUTD3/~{DUPLEX POL 0} (io), 12 P0 OUTD2/~{P0 MODE2} (io), 13 P0 OUTD1/~{P0 MODE1} (io), 14 P0 OUTD0/~{P0 MODE0} (io), 15 VDD33IO (power), 16 P0 OUTDV (io), 17 P0 OUTCLK (io), 18 P0 COL (in), 19 P0 CRS (in), 20 P0 DUPLEX (in), 21 MDIO (in), 22 MDC (in), 23 VDD33IO (power), 24 LED5/GPIO5/~{PHYADDR LED5P} (io), 25 LED4/GPIO4/~{MNGT1 LED4P} (io), 26 LED3/GPIO3/~{MNGT0 LED3P} (io), 27 LED2/GPIO2/~{E2PSIZE LED2P} (io), 28 LED1/GPIO1/~{AMDIX 2 LED1P} (io), 29 LED0/GPIO0/~{AMDIX1 LED0P} (io), 30 VDD33IO (power), 31 VDD18CORE (power), 32 VDD33IO (power), 33 TEST1, 34 TEST2, 35 EE SDA/SDA (in), 36 EE SCL/SCL (in), 37 ~{RST} (in), 38 IRQ (in), 39 XI (in), 40 XO (out), 41 VDD18PLL (power), 42 TXN1 (out), 43 TXP1 (out), 44 VDD33A1 (power), 45 RXN1 (in), 46 RXP1 (in), 47 VDD33A1 (power), 48 VDD18TX1 (power), 49 EXRES (power), 50 VDD33BIAS (power), 51 VDD18TX2 (power), 52 VDD33A2 (power), 53 RXP2 (in), 54 RXN2 (in), 55 VDD33A2 (power), 56 TXP2 (out), 57 VSS (power)

## CMP-06281-000063-1_3
designator U?, comment LAN9303I-ABZJ
IC ETHER SW 3PORT 16BIT 56QFN; Min Supply Voltage: 3V; Data Rate: 100Mbps; Max Supply Current: 190mA; Number of Ports: 3; Max Supply Voltage: 3.6V; Number of Transceivers: 1; Operating Supply Voltage: 3.3V; Interface: I2C; Min Operating Temperature: -40°C; Series: -; Mount: Surface Mount; Radiation Hardening: No; Package Quantity: 260; Lead Free: Lead Free; Number of Pins: 56; Packaging: Tray; Case/Package: QFN; Height: 0.9mm; RoHS Compliant: Yes; Operating Supply Current: 190mA; Width: 7.95mm; Max Operating Temperature: 85°C; Length: 7.95mm
footprint QFN50P800X800X100-57N
pins: 1 TXN2 (out), 2 P0 IND3 (io), 3 P0 IND2 (io), 4 P0 IND1 (io), 5 P0 IND0 (io), 6 P0 INDV (in), 7 P0 INER (in), 8 P0 INCLK (in), 9 VDD33IO (power), 10 VDD18CORE (power), 11 P0 OUTD3/~{DUPLEX POL 0} (io), 12 P0 OUTD2/~{P0 MODE2} (io), 13 P0 OUTD1/~{P0 MODE1} (io), 14 P0 OUTD0/~{P0 MODE0} (io), 15 VDD33IO (power), 16 P0 OUTDV (io), 17 P0 OUTCLK (io), 18 P0 COL (in), 19 P0 CRS (in), 20 P0 DUPLEX (in), 21 MDIO (in), 22 MDC (in), 23 VDD33IO (power), 24 LED5/GPIO5/~{PHYADDR LED5P} (io), 25 LED4/GPIO4/~{MNGT1 LED4P} (io), 26 LED3/GPIO3/~{MNGT0 LED3P} (io), 27 LED2/GPIO2/~{E2PSIZE LED2P} (io), 28 LED1/GPIO1/~{AMDIX 2 LED1P} (io), 29 LED0/GPIO0/~{AMDIX1 LED0P} (io), 30 VDD33IO (power), 31 VDD18CORE (power), 32 VDD33IO (power), 33 TEST1, 34 TEST2, 35 EE SDA/SDA (in), 36 EE SCL/SCL (in), 37 ~{RST} (in), 38 IRQ (in), 39 XI (in), 40 XO (out), 41 VDD18PLL (power), 42 TXN1 (out), 43 TXP1 (out), 44 VDD33A1 (power), 45 RXN1 (in), 46 RXP1 (in), 47 VDD33A1 (power), 48 VDD18TX1 (power), 49 EXRES (power), 50 VDD33BIAS (power), 51 VDD18TX2 (power), 52 VDD33A2 (power), 53 RXP2 (in), 54 RXN2 (in), 55 VDD33A2 (power), 56 TXP2 (out), 57 VSS (power)

## CMP-06281-000063-1_4
designator U?, comment LAN9303I-ABZJ
IC ETHER SW 3PORT 16BIT 56QFN; Min Supply Voltage: 3V; Data Rate: 100Mbps; Max Supply Current: 190mA; Number of Ports: 3; Max Supply Voltage: 3.6V; Number of Transceivers: 1; Operating Supply Voltage: 3.3V; Interface: I2C; Min Operating Temperature: -40°C; Series: -; Mount: Surface Mount; Radiation Hardening: No; Package Quantity: 260; Lead Free: Lead Free; Number of Pins: 56; Packaging: Tray; Case/Package: QFN; Height: 0.9mm; RoHS Compliant: Yes; Operating Supply Current: 190mA; Width: 7.95mm; Max Operating Temperature: 85°C; Length: 7.95mm
footprint QFN50P800X800X100-57N
pins: 1 TXN2 (out), 2 P0 IND3 (io), 3 P0 IND2 (io), 4 P0 IND1 (io), 5 P0 IND0 (io), 6 P0 INDV (in), 7 P0 INER (in), 8 P0 INCLK (in), 9 VDD33IO (power), 10 VDD18CORE (power), 11 P0 OUTD3/~{DUPLEX POL 0} (io), 12 P0 OUTD2/~{P0 MODE2} (io), 13 P0 OUTD1/~{P0 MODE1} (io), 14 P0 OUTD0/~{P0 MODE0} (io), 15 VDD33IO (power), 16 P0 OUTDV (io), 17 P0 OUTCLK (io), 18 P0 COL (in), 19 P0 CRS (in), 20 P0 DUPLEX (in), 21 MDIO (in), 22 MDC (in), 23 VDD33IO (power), 24 LED5/GPIO5/~{PHYADDR LED5P} (io), 25 LED4/GPIO4/~{MNGT1 LED4P} (io), 26 LED3/GPIO3/~{MNGT0 LED3P} (io), 27 LED2/GPIO2/~{E2PSIZE LED2P} (io), 28 LED1/GPIO1/~{AMDIX 2 LED1P} (io), 29 LED0/GPIO0/~{AMDIX1 LED0P} (io), 30 VDD33IO (power), 31 VDD18CORE (power), 32 VDD33IO (power), 33 TEST1, 34 TEST2, 35 EE SDA/SDA (in), 36 EE SCL/SCL (in), 37 ~{RST} (in), 38 IRQ (in), 39 XI (in), 40 XO (out), 41 VDD18PLL (power), 42 TXN1 (out), 43 TXP1 (out), 44 VDD33A1 (power), 45 RXN1 (in), 46 RXP1 (in), 47 VDD33A1 (power), 48 VDD18TX1 (power), 49 EXRES (power), 50 VDD33BIAS (power), 51 VDD18TX2 (power), 52 VDD33A2 (power), 53 RXP2 (in), 54 RXN2 (in), 55 VDD33A2 (power), 56 TXP2 (out), 57 VSS (power)

## CMP-07173-000101-1
designator Q?, comment BSS138
MOSFET N-CH 50V 220MA SOT-23; Manufacturer: ON Semiconductor / Fairchild; Rds On Max: 3.5R; Max Power Dissipation: 360mW; Input Capacitance: 27pF; Turn-Off Delay Time: 20ns; Turn-On Delay Time: 2.5ns; Gate to Source Voltage (Vgs): 20V; Number of Elements: 1; Threshold Voltage: 1.3V; Rise Time: 9ns; Element Configuration: Single; On-State Resistance: 6R; Supplier 1: Digi-Key; Supplier Part Number 1: BSS138CT-ND; Manufacturer Part Number: BSS138; RoHS: Yes; Category: MOSFETs; Stock 1: 1079620; Pricing 1: 1=0,28000, 10=0,22800, 25=0,19120, 100=0,12100, 500=0,07962, 1000=0,05414 (USD); Mount: Surface Mount; Case/Package: SOT-23; Number of Pins: 3; Contact Plating: Tin,Matte; Weight: 0.03g; Min Operating Temperature: -55°C; Max Operating Temperature: 150°C; Packaging: Tape and Reel; Drain to Source Voltage (Vdss): 50V; Continuous Drain Current (ID): 220mA; Power Dissipation: 360mW; Package Quantity: 1; Drain to Source Breakdown Voltage: 50V; Drain to Source Resistance: 3.5R; Nominal Vgs: 1.3V; Fall Time: 9ns; Voltage Rating (DC): 50V; Current Rating: 220mA; Dual Supply Voltage: 50V; Termination: SMD/SMT; Length: 2.92mm; Width: 1.3mm; Height: 0.93mm; Radiation Hardening: No; REACH SVHC: No SVHC; Lead Free: Lead Free; ComponentLink1URL: https://datasheet.ciiva.com/1190/193736-1190130.pdf?src-supplier=Element14; ComponentLink1Description: https://datasheet.ciiva.com/1190/193736-1190130.pdf?src-supplier=Element14; ComponentLink2URL: https://datasheet.ciiva.com/931/bss138-931776.pdf?src-supplier=Digi-Key; ComponentLink2Description: https://datasheet.ciiva.com/931/bss138-931776.pdf?src-supplier=Digi-Key; ComponentLink3URL: https://datasheet.ciiva.com/22655/193736-22655240.pdf?src-supplier=Element14; ComponentLink3Description: https://datasheet.ciiva.com/22655/193736-22655240.pdf?src-supplier=Element14; ComponentLink4URL: https://datasheet.ciiva.com/1254/193736-1254983.pdf?src-supplier=Newark; ComponentLink4Description: https://datasheet.ciiva.com/1254/193736-1254983.pdf?src-supplier=Newark; ComponentLink5URL: https://datasheet.ciiva.com/27050/784896-27050043.pdf?src-supplier=Jameco; ComponentLink5Description: https://datasheet.ciiva.com/27050/784896-27050043.pdf?src-supplier=Jameco; ComponentLink6URL: https://datasheet.ciiva.com/1190/193736-1190131.pdf?src-supplier=Element14; ComponentLink6Description: https://datasheet.ciiva.com/1190/193736-1190131.pdf?src-supplier=Element14; ComponentLink7URL: https://datasheet.ciiva.com/3304/bss138-3304424.pdf?src-supplier=Avnet; ComponentLink7Description: https://datasheet.ciiva.com/3304/bss138-3304424.pdf?src-supplier=Avnet; ComponentLink8URL: https://datasheet.ciiva.com/16834/bss138-16834843.pdf?src-supplier=Future+Electronics; ComponentLink8Description: https://datasheet.ciiva.com/16834/bss138-16834843.pdf?src-supplier=Future+Electronics; ComponentLink9URL: https://datasheet.ciiva.com/26229/bss138-26229007.pdf?src-supplier=Avnet+Europe; ComponentLink9Description: https://datasheet.ciiva.com/26229/bss138-26229007.pdf?src-supplier=Avnet+Europe
footprint FP-318-08-IPC_B
footprint FP-318-08-MFG
footprint FP-318-08-IPC_A
footprint FP-318-08-IPC_C
pins: 1 G, 2 S, 3 D

## CMP-07173-000101-1_1
designator Q?, comment BSS138
MOSFET N-CH 50V 220MA SOT-23; Turn-Off Delay Time: 20ns; Element Configuration: Single; Rds On Max: 3.5R; Gate to Source Voltage (Vgs): 20V; Threshold Voltage: 1.3V; Number of Elements: 1; Power Dissipation: 360mW; Rise Time: 9ns; Turn-On Delay Time: 2.5ns; Input Capacitance: 27pF; On-State Resistance: 6R; Lead Free: Lead Free; Length: 2.92mm; Width: 1.3mm; Drain to Source Breakdown Voltage: 50V; Min Operating Temperature: -55°C; REACH SVHC: No SVHC; Packaging: Tape and Reel; Radiation Hardening: No; Height: 0.93mm; Drain to Source Voltage (Vdss): 50V; Current Rating: 220mA; Voltage Rating (DC): 50V; Weight: 0.03g; Continuous Drain Current (ID): 220mA; Number of Pins: 3; Nominal Vgs: 1.3V; Max Power Dissipation: 360mW; Fall Time: 9ns; Drain to Source Resistance: 3.5R; Contact Plating: Tin; Case/Package: SOT-23; Package Quantity: 1; Dual Supply Voltage: 50V; Mount: Surface Mount; Termination: SMD/SMT; Max Operating Temperature: 150°C
footprint FP-318-08-IPC_B
footprint FP-318-08-MFG
footprint FP-318-08-IPC_A
footprint FP-318-08-IPC_C
pins: 1 G, 2 S, 3 D

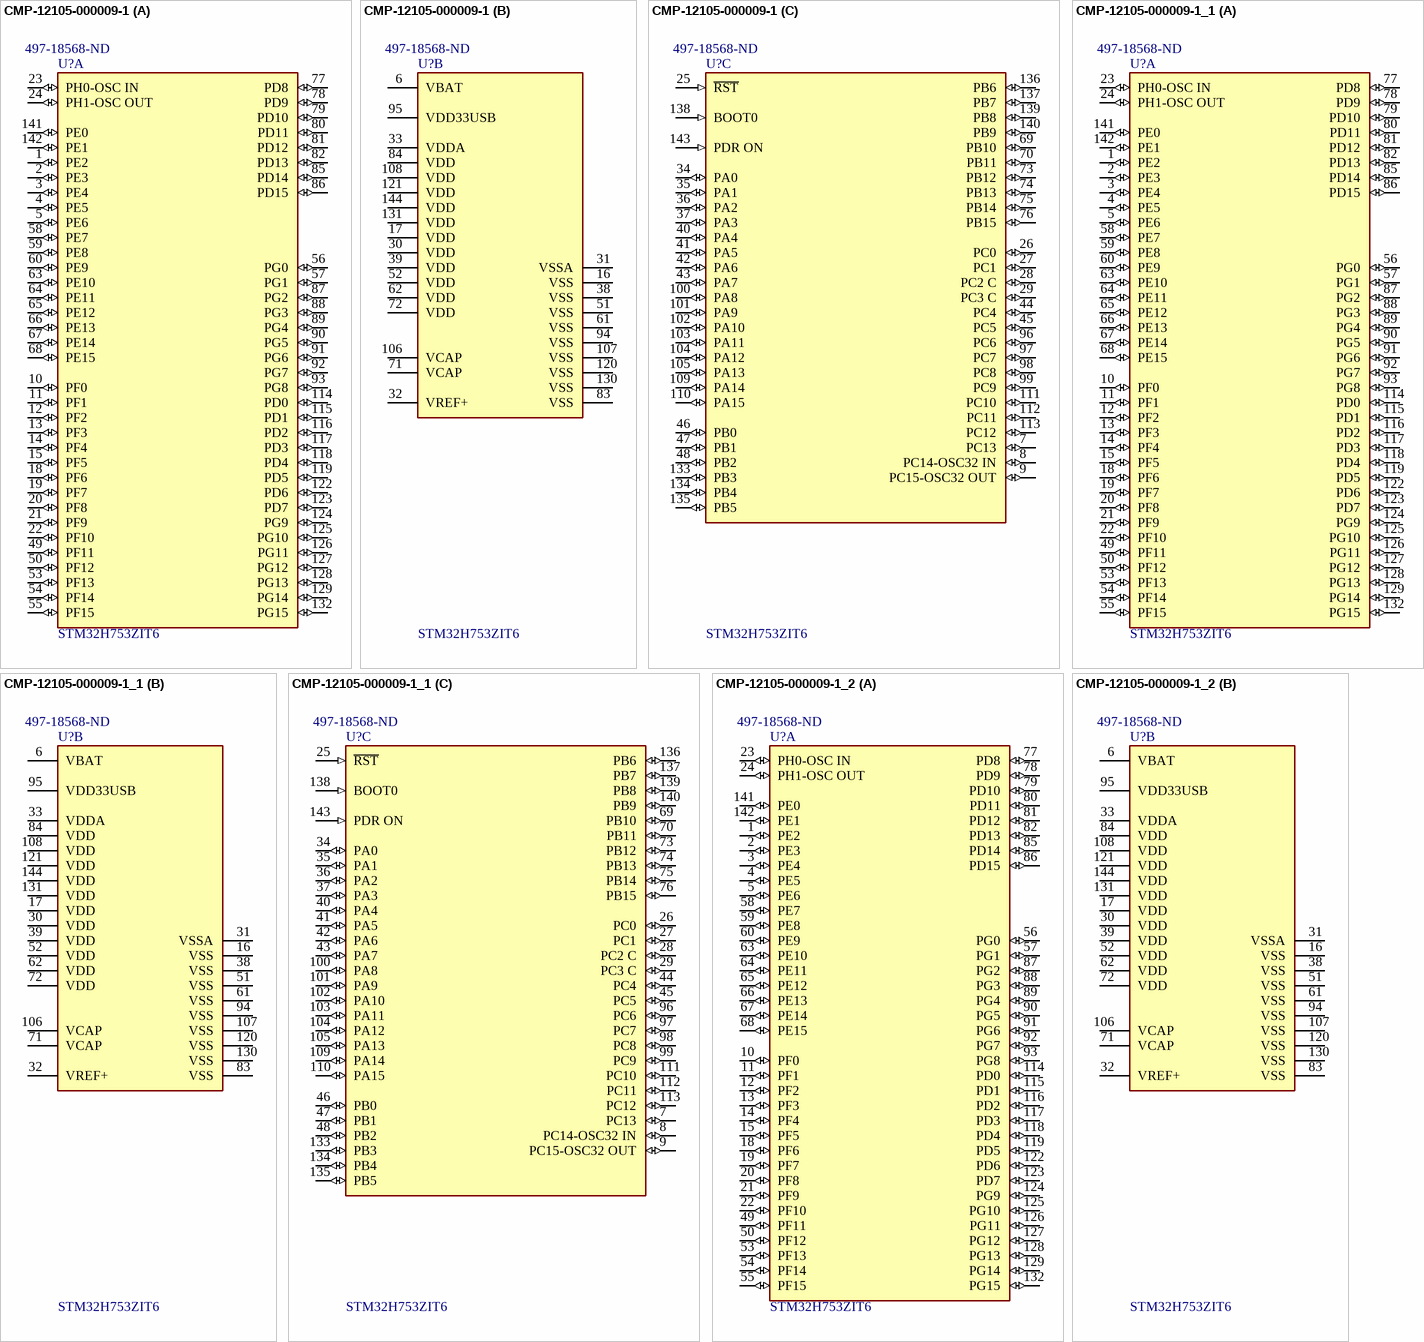
[diagram p19: symbols CMP-12105-000009-1 to CMP-12105-000009-1_2]

## CMP-12105-000009-1
designator U?, comment STM32H753ZIT6  Supplier Part Number 1: 497-18568-ND
LQFP 144 20X20X1.4 2; Manufacturer: STMicroelectronics; ComponentLink2URL: https://www.st.com/resource/en/datasheet/stm32h753zi.pdf; ComponentLink2Description: Datasheet; ComponentLink1URL: http://www.farnell.com/datasheets/2602777.pdf?src-supplier=Farnell; ComponentLink1Description: http://www.farnell.com/datasheets/2602777.pdf?src-supplier=Farnell; ComponentLink3URL: http://www.farnell.com/datasheets/2602777.pdf?src-supplier=Newark; ComponentLink3Description: http://www.farnell.com/datasheets/2602777.pdf?src-supplier=Newark; ComponentLink4URL: http://www.farnell.com/datasheets/2602777.pdf?src-supplier=Element14; ComponentLink4Description: http://www.farnell.com/datasheets/2602777.pdf?src-supplier=Element14; ComponentLink5URL: http://www.st.com/content/ccc/resource/technical/document/datasheet/group3/01/21/00/39/12/c9/4c/f1/DM00388325/files/DM00388325.pdf/jcr:content/translations/en.DM00388325.pdf?src-supplier=Digi-Key; ComponentLink5Description: http://www.st.com/content/ccc/resource/technical/document/datasheet/group3/01/21/00/39/12/c9/4c/f1/DM00388325/files/DM00388325.pdf/jcr:content/translations/en.DM00388325.pdf?src-supplier=Digi-Key; Supplier 1: Digi-Key; Manufacturer Part Number: STM32H753ZIT6; RoHS: Yes; Category: Microcontrollers; Pricing 1: 1=18.38000, 10=16.88900, 25=16.18840, 120=14.58417 (USD); RoHS Compliant: Yes
footprint FP-LQFP144-1A-MFG
footprint FP-LQFP144-1A-IPC_C
footprint FP-LQFP144-1A-IPC_B
footprint FP-LQFP144-1A-IPC_A
part A pins: 1 PE2 (io), 2 PE3 (io), 3 PE4 (io), 4 PE5 (io), 5 PE6 (io), 10 PF0 (io), 11 PF1 (io), 12 PF2 (io), 13 PF3 (io), 14 PF4 (io), 15 PF5 (io), 18 PF6 (io), 19 PF7 (io), 20 PF8 (io), 21 PF9 (io), 22 PF10 (io), 23 PH0-OSC IN (io), 24 PH1-OSC OUT (io), 49 PF11 (io), 50 PF12 (io), 53 PF13 (io), 54 PF14 (io), 55 PF15 (io), 56 PG0 (io), 57 PG1 (io), 58 PE7 (io), 59 PE8 (io), 60 PE9 (io), 63 PE10 (io), 64 PE11 (io), 65 PE12 (io), 66 PE13 (io), 67 PE14 (io), 68 PE15 (io), 77 PD8 (io), 78 PD9 (io), 79 PD10 (io), 80 PD11 (io), 81 PD12 (io), 82 PD13 (io), 85 PD14 (io), 86 PD15 (io), 87 PG2 (io), 88 PG3 (io), 89 PG4 (io), 90 PG5 (io), 91 PG6 (io), 92 PG7 (io), 93 PG8 (io), 114 PD0 (io), 115 PD1 (io), 116 PD2 (io), 117 PD3 (io), 118 PD4 (io), 119 PD5 (io), 122 PD6 (io), 123 PD7 (io), 124 PG9 (io), 125 PG10 (io), 126 PG11 (io), 127 PG12 (io), 128 PG13 (io), 129 PG14 (io), 132 PG15 (io), 141 PE0 (io), 142 PE1 (io)
part B pins: 6 VBAT (power), 16 VSS (power), 17 VDD (power), 30 VDD (power), 31 VSSA (power), 32 VREF+ (power), 33 VDDA (power), 38 VSS (power), 39 VDD (power), 51 VSS (power), 52 VDD (power), 61 VSS (power), 62 VDD (power), 71 VCAP (power), 72 VDD (power), 83 VSS (power), 84 VDD (power), 94 VSS (power), 95 VDD33USB (power), 106 VCAP (power), 107 VSS (power), 108 VDD (power), 120 VSS (power), 121 VDD (power), 130 VSS (power), 131 VDD (power), 144 VDD (power)
part C pins: 7 PC13 (io), 8 PC14-OSC32 IN (io), 9 PC15-OSC32 OUT (io), 25 ~{RST} (in), 26 PC0 (io), 27 PC1 (io), 28 PC2 C (io), 29 PC3 C (io), 34 PA0 (io), 35 PA1 (io), 36 PA2 (io), 37 PA3 (io), 40 PA4 (io), 41 PA5 (io), 42 PA6 (io), 43 PA7 (io), 44 PC4 (io), 45 PC5 (io), 46 PB0 (io), 47 PB1 (io), 48 PB2 (io), 69 PB10 (io), 70 PB11 (io), 73 PB12 (io), 74 PB13 (io), 75 PB14 (io), 76 PB15 (io), 96 PC6 (io), 97 PC7 (io), 98 PC8 (io), 99 PC9 (io), 100 PA8 (io), 101 PA9 (io), 102 PA10 (io), 103 PA11 (io), 104 PA12 (io), 105 PA13 (io), 109 PA14 (io), 110 PA15 (io), 111 PC10 (io), 112 PC11 (io), 113 PC12 (io), 133 PB3 (io), 134 PB4 (io), 135 PB5 (io), 136 PB6 (io), 137 PB7 (io), 138 BOOT0 (in), 139 PB8 (io), 140 PB9 (io), 143 PDR ON (in)